# Altium integrated library Resistores SMD.IntLib: 27 symbols
Pins are listed as number, name and electrical type; pins without a type are passive.

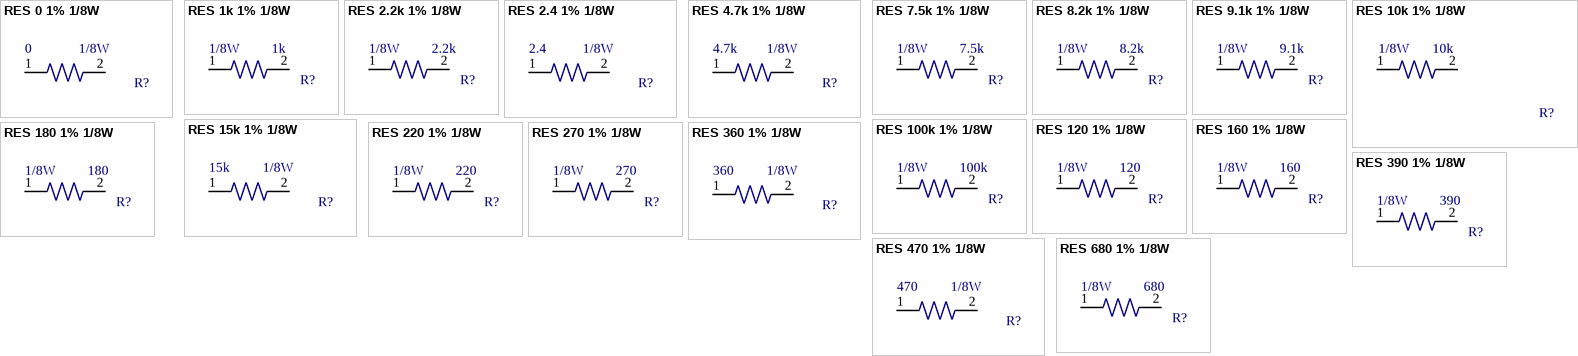
[diagram p0: symbols RES 0 1% 1/8W to RES 680 1% 1/8W]

## RES 0 1% 1/8W
designator R?, comment Power: 1/8W  Resistence: 0  (hidden comment: RES 0805)
0 Ohms ±1% 0.125W, 1/8W Chip Resistor 0805 (2012 Metric) Moisture Resistant Thick Film; Manufacturer 1: Vishay Dale; Manufacturer 1 PN: CRCW08050000Z0EA; ComponentLink1Description: Datasheet; ComponentLink1URL: http://www.yageo.com/documents/recent/PYu-RC_Group_51_RoHS_L_9.pdf; Digikey PN: 541-0.0ACT-ND; Mouser PN: 71-CRCW0805-0-E3
footprint RES SMD 0 OHM 1% 1/8W 0805 (0 Ohms ±1% 0.125W, 1/8W Chip Resistor 0805 (2012 Metric) Moisture Resistant Thick Film)
pins: 1, 2

## RES 1k 1% 1/8W
designator R?, comment Resistence: 1k  Power: 1/8W  (hidden comment: RES 0805)
1kOhms ±1% 0.125W, 1/8W Chip Resistor 0805 (2012 Metric) Moisture Resistant Thick Film; Manufacturer 1: Yageo; Manufacturer 1 PN: RC0805FR-071KL; Digikey PN: 311-1.00KCRCT-ND; ComponentLink1Description: Datasheet; ComponentLink1URL: http://www.yageo.com/documents/recent/PYu-RC_Group_51_RoHS_L_9.pdf; Mouser PN: 603-RC0805FR-071KL
footprint RES SMD 1KOHM 1% 1/8W 0805 (1kOhms ±1% 0.125W, 1/8W Chip Resistor 0805 (2012 Metric) Moisture Resistant Thick Film)
pins: 1, 2

## RES 2.2k 1% 1/8W
designator R?, comment Resistence: 2.2k  Power: 1/8W  (hidden comment: RES 0805)
2.2 kOhms ±1% 0.125W, 1/8W Chip Resistor 0805 (2012 Metric) Moisture Resistant Thick Film; Manufacturer 1: Yageo; Manufacturer 1 PN: RC0805FR-072K2L; Digikey PN: 311-2.20KCRCT-ND; ComponentLink1Description: Datasheet; ComponentLink1URL: http://www.yageo.com/documents/recent/PYu-RC_Group_51_RoHS_L_9.pdf; Mouser PN: 603-RC0805FR-072K2L
footprint RES SMD 2.2k OHM 1% 1/8W 0805 (2.2k Ohms ±1% 0.125W, 1/8W Chip Resistor 0805 (2012 Metric) Moisture Resistant Thick Film)
pins: 1, 2

## RES 2.4 1% 1/8W
designator R?, comment Power: 1/8W  Resistence: 2.4  (hidden comment: RES 0805)
2.4 Ohms ±1% 0.125W, 1/8W Chip Resistor 0805 (2012 Metric) Moisture Resistant Thick Film; Manufacturer 1: Yageo; Manufacturer 1 PN: AC0805FR-072R4L; ComponentLink1Description: Datasheet; ComponentLink1URL: http://www.yageo.com/documents/recent/PYu-RC_Group_51_RoHS_L_9.pdf; Digikey PN: YAG5364CT-ND; Mouser PN: 603-AC0805FR-072R4L
footprint RES SMD 2.4OHM 1% 1/8W 0805 (2.4Ohms ±1% 0.125W, 1/8W Chip Resistor 0805 (2012 Metric) Moisture Resistant Thick Film)
pins: 1, 2

## RES 4.7k 1% 1/8W
designator R?, comment Power: 1/8W  Resistence: 4.7k  (hidden comment: RES 0805)
4.7k Ohms ±1% 0.125W, 1/8W Chip Resistor 0805 (2012 Metric) Moisture Resistant Thick Film; Manufacturer 1: Yageo; Manufacturer 1 PN: RC0805FR-074K7L; ComponentLink1Description: Datasheet; ComponentLink1URL: http://www.yageo.com/documents/recent/PYu-RC_Group_51_RoHS_L_9.pdf; Digikey PN: 311-4.70KCRCT-ND; Mouser PN: 603-RC0805FR-074K7L
footprint RES SMD 4.7KOHM 1% 1/8W 0805 (4.7kOhms ±1% 0.125W, 1/8W Chip Resistor 0805 (2012 Metric) Moisture Resistant Thick Film)
pins: 1, 2

## RES 7.5k 1% 1/8W
designator R?, comment Resistence: 7.5k  Power: 1/8W  (hidden comment: RES 0805)
7.5kOhms ±1% 0.125W, 1/8W Chip Resistor 0805 (2012 Metric) Moisture Resistant Thick Film; Manufacturer 1: Yageo; Manufacturer 1 PN: RC0805FR-077R5L; Digikey PN: 311-7.50CRCT-ND; ComponentLink1Description: Datasheet; ComponentLink1URL: http://www.yageo.com/documents/recent/PYu-RC_Group_51_RoHS_L_9.pdf; Mouser PN: 603-RC0805FR-077R5L
footprint RES SMD 7.5kOHM 1% 1/8W 0805 (7.5kOhms ±1% 0.125W, 1/8W Chip Resistor 0805 (2012 Metric) Moisture Resistant Thick Film)
pins: 1, 2

## RES 8.2k 1% 1/8W
designator R?, comment Resistence: 8.2k  Power: 1/8W  (hidden comment: RES 0805)
8.2kOhms ±1% 0.125W, 1/8W Chip Resistor 0805 (2012 Metric) Moisture Resistant Thick Film; Manufacturer 1: Yageo; Manufacturer 1 PN: RC0805FR-078K2L; Digikey PN: 311-8.20KCRCT-ND; ComponentLink1Description: Datasheet; ComponentLink1URL: http://www.yageo.com/documents/recent/PYu-RC_Group_51_RoHS_L_9.pdf; Mouser PN: 603-RC0805FR-078K2L
footprint RES SMD 8.2k OHM 1% 1/8W 0805 (8.2k Ohms ±1% 0.125W, 1/8W Chip Resistor 0805 (2012 Metric) Moisture Resistant Thick Film)
pins: 1, 2

## RES 9.1k 1% 1/8W
designator R?, comment Resistence: 9.1k  Power: 1/8W  (hidden comment: RES 0805)
9.1kOhms ±1% 0.125W, 1/8W Chip Resistor 0805 (2012 Metric) Moisture Resistant Thick Film; Manufacturer 1: Yageo; Manufacturer 1 PN: RC0805FR-079K1L; Digikey PN: 311-9.10KCRCT-ND; ComponentLink1Description: Datasheet; ComponentLink1URL: http://www.yageo.com/documents/recent/PYu-RC_Group_51_RoHS_L_9.pdf; Mouser PN: 603-RC0805FR-079K1L
footprint RES SMD 9.1k OHM 1% 1/8W 0805 (9.1k Ohms ±1% 0.125W, 1/8W Chip Resistor 0805 (2012 Metric) Moisture Resistant Thick Film)
pins: 1, 2

## RES 10k 1% 1/8W
designator R?, comment Resistence: 10k  Power: 1/8W  (hidden comment: RES 0805)
10 kOhms ±1% 0.125W, 1/8W Chip Resistor 0805 (2012 Metric) Moisture Resistant Thick Film; Manufacturer 1: Yageo; Manufacturer 1 PN: RC0805FR-0710KL; Digikey PN: 311-10.0KCRCT-ND; ComponentLink1Description: Datasheet; ComponentLink1URL: http://www.yageo.com/documents/recent/PYu-RC_Group_51_RoHS_L_9.pdf; Mouser PN: 603-RC0805FR-0710KL
footprint RES SMD 10KOHM 1% 1/8W 0805 (10 kOhms ±1% 0.125W, 1/8W Chip Resistor 0805 (2012 Metric) Moisture Resistant Thick Film)
pins: 1, 2

## RES 15k 1% 1/8W
designator R?, comment Power: 1/8W  Resistence: 15k  (hidden comment: RES 0805)
15k Ohms ±1% 0.125W, 1/8W Chip Resistor 0805 (2012 Metric) Moisture Resistant Thick Film; Manufacturer 1: Yageo; Manufacturer 1 PN: RC0805FR-0715KL; ComponentLink1Description: Datasheet; ComponentLink1URL: http://www.yageo.com/documents/recent/PYu-RC_Group_51_RoHS_L_9.pdf; Digikey PN: 311-15.0KCRCT-ND; Mouser PN: 603-RC0805FR-0715KL
footprint RES SMD 15KOHM 1% 1/8W 0805 (15kOhms ±1% 0.125W, 1/8W Chip Resistor 0805 (2012 Metric) Moisture Resistant Thick Film)
pins: 1, 2

## RES 100k 1% 1/8W
designator R?, comment Resistence: 100k  Power: 1/8W  (hidden comment: RES 0805)
100k Ohms ±1% 0.125W, 1/8W Chip Resistor 0805 (2012 Metric) Moisture Resistant Thick Film; Manufacturer 1: Yageo; Manufacturer 1 PN: RC0805FR-07100KL; Digikey PN: 311-100KCRCT-ND; ComponentLink1Description: Datasheet; ComponentLink1URL: http://www.yageo.com/documents/recent/PYu-RC_Group_51_RoHS_L_9.pdf; Mouser PN: 603-RC0805FR-07100KL
footprint RES SMD 100k OHM 1% 1/8W 0805 (100k Ohms ±1% 0.125W, 1/8W Chip Resistor 0805 (2012 Metric) Moisture Resistant Thick Film)
pins: 1, 2

## RES 120 1% 1/8W
designator R?, comment Resistence: 120  Power: 1/8W  (hidden comment: RES 0805)
120 Ohms ±1% 0.125W, 1/8W Chip Resistor 0805 (2012 Metric)  Thick Film; Manufacturer 1: TE Connectivity Passive Product; Manufacturer 1 PN: CRG0805F120R; Digikey PN: A126336CT-ND; ComponentLink1Description: Datasheet; ComponentLink1URL: http://www.yageo.com/documents/recent/PYu-RC_Group_51_RoHS_L_9.pdf; Mouser PN: 279-CRG0805F120R
footprint RES SMD 120OHM 1% 1/8W 0805 (120 Ohms ±1% 0.125W, 1/8W Chip Resistor 0805 (2012 Metric)  Thick Film)
pins: 1, 2

## RES 160 1% 1/8W
designator R?, comment Resistence: 160  Power: 1/8W  (hidden comment: RES 0805)
160 Ohms ±1% 0.125W, 1/8W Chip Resistor 0805 (2012 Metric) Moisture Resistant Thick Film; Manufacturer 1: Yageo; Manufacturer 1 PN: RC0805FR-07160RL; Digikey PN: 311-160CRCT-ND; ComponentLink1Description: Datasheet; ComponentLink1URL: http://www.yageo.com/documents/recent/PYu-RC_Group_51_RoHS_L_9.pdf; Mouser PN: 603-RC0805FR-07160RL
footprint RES SMD 160 OHM 1% 1/8W 0805 (160 Ohms ±1% 0.125W, 1/8W Chip Resistor 0805 (2012 Metric) Moisture Resistant Thick Film)
pins: 1, 2

## RES 180 1% 1/8W
designator R?, comment Resistence: 180  Power: 1/8W  (hidden comment: RES 0805)
180Ohms ±1% 0.125W, 1/8W Chip Resistor 0805 (2012 Metric) Moisture Resistant Thick Film; Manufacturer 1: Yageo; Manufacturer 1 PN: RC0805FR-07180RL; Digikey PN: 311-180CRCT-ND; ComponentLink1Description: Datasheet; ComponentLink1URL: http://www.yageo.com/documents/recent/PYu-RC_Group_51_RoHS_L_9.pdf; Mouser PN: 603-RC0805FR-07180RL
footprint RES SMD 180 OHM 1% 1/8W 0805 (180 Ohms ±1% 0.125W, 1/8W Chip Resistor 0805 (2012 Metric) Moisture Resistant Thick Film)
pins: 1, 2

## RES 220 1% 1/8W
designator R?, comment Resistence: 220  Power: 1/8W  (hidden comment: RES 0805)
220Ohms ±1% 0.125W, 1/8W Chip Resistor 0805 (2012 Metric) Moisture Resistant Thick Film; Manufacturer 1: Yageo; Manufacturer 1 PN: RC0805FR-07220RL; Digikey PN: 311-220CRCT-ND; ComponentLink1Description: Datasheet; ComponentLink1URL: http://www.yageo.com/documents/recent/PYu-RC_Group_51_RoHS_L_9.pdf; Mouser PN: 603-RC0805FR-07220RL
footprint RES SMD 220 OHM 1% 1/8W 0805 (220 Ohms ±1% 0.125W, 1/8W Chip Resistor 0805 (2012 Metric) Moisture Resistant Thick Film)
pins: 1, 2

## RES 270 1% 1/8W
designator R?, comment Resistence: 270  Power: 1/8W  (hidden comment: RES 0805)
270Ohms ±1% 0.125W, 1/8W Chip Resistor 0805 (2012 Metric) Moisture Resistant Thick Film; Manufacturer 1: Yageo; Manufacturer 1 PN: RC0805FR-07270RL; Digikey PN: 311-270CRCT-ND; ComponentLink1Description: Datasheet; ComponentLink1URL: http://www.yageo.com/documents/recent/PYu-RC_Group_51_RoHS_L_9.pdf; Mouser PN: 603-RC0805FR-07270RL
footprint RES SMD 270 OHM 1% 1/8W 0805 (270 Ohms ±1% 0.125W, 1/8W Chip Resistor 0805 (2012 Metric) Moisture Resistant Thick Film)
pins: 1, 2

## RES 360 1% 1/8W
designator R?, comment Power: 1/8W  Resistence: 360  (hidden comment: RES 0805)
360 Ohms ±0.1% 0.125W, 1/8W Chip Resistor 0805 (2012 Metric) Automotive AEC-Q200 Thin Film; Manufacturer 1: Panasonic Electronic Components; Manufacturer 1 PN: ERA-6AEB361V; ComponentLink1Description: Datasheet; ComponentLink1URL: http://www.yageo.com/documents/recent/PYu-RC_Group_51_RoHS_L_9.pdf; Digikey PN: P360DACT-ND; Mouser PN: 603-RC0805FR-07470RL
footprint RES SMD 360OHM 1% 1/8W 0805 (360 Ohms ±1% 0.125W, 1/8W Chip Resistor 0805 (2012 Metric) Moisture Resistant Thick Film)
pins: 1, 2

## RES 390 1% 1/8W
designator R?, comment Resistence: 390  Power: 1/8W  (hidden comment: RES 0805)
390 Ohms ±1% 0.125W, 1/8W Chip Resistor 0805 (2012 Metric)  Thick Film; Manufacturer 1: TE Connectivity Passive Product; Manufacturer 1 PN: CRG0805F390R; Digikey PN: A126365CT-ND; ComponentLink1Description: Datasheet; ComponentLink1URL: http://www.yageo.com/documents/recent/PYu-RC_Group_51_RoHS_L_9.pdf; Mouser PN: 279-CRG0805F390R
footprint RES SMD 390 OHM 1% 1/8W 0805 (390 Ohms ±1% 0.125W, 1/8W Chip Resistor 0805 (2012 Metric) Moisture Resistant Thick Film)
pins: 1, 2

## RES 470 1% 1/8W
designator R?, comment Power: 1/8W  Resistence: 470  (hidden comment: RES 0805)
470 Ohms ±1% 0.125W, 1/8W Chip Resistor 0805 (2012 Metric) Moisture Resistant Thick Film; Manufacturer 1: Yageo; Manufacturer 1 PN: RC0805FR-07470RL; ComponentLink1Description: Datasheet; ComponentLink1URL: http://www.yageo.com/documents/recent/PYu-RC_Group_51_RoHS_L_9.pdf; Digikey PN: 311-10.0KCRCT-ND; Mouser PN: 603-RC0805FR-07470RL
footprint RES SMD 470OHM 1% 1/8W 0805 (470 Ohms ±1% 0.125W, 1/8W Chip Resistor 0805 (2012 Metric) Moisture Resistant Thick Film)
pins: 1, 2

## RES 680 1% 1/8W
designator R?, comment Resistence: 680  Power: 1/8W  (hidden comment: RES 0805)
680 Ohms ±1% 0.125W, 1/8W Chip Resistor 0805 (2012 Metric) Automotive AEC-Q200, Moisture Resistant Thick Film; Manufacturer 1: TE Connectivity Passive Product; Manufacturer 1 PN: CRGCQ0805F680R; Digikey PN: A129747CT-ND; ComponentLink1Description: Datasheet; ComponentLink1URL: http://www.yageo.com/documents/recent/PYu-RC_Group_51_RoHS_L_9.pdf; Mouser PN: 279-CRGCQ0805F680R
footprint RES SMD 680 OHM 1% 1/8W 0805 (680 Ohms ±1% 0.125W, 1/8W Chip Resistor 0805 (2012 Metric) Moisture Resistant Thick Film)
pins: 1, 2


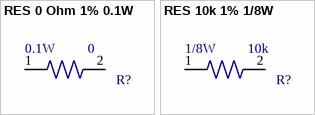
[diagram p1: symbols RES 0 Ohm 1% 0.1W to RES 10k 1% 1/8W]

## RES 0 Ohm 1% 0.1W
designator R?, comment Resistence: 0  Power: 0.1W  (hidden comment: RES 0603)
0 Ohms Jumper 0.1W, 1/10W Chip Resistor 0603 (1608 Metric) Moisture Resistant Thick Film; Manufacturer 1: Yageo; Manufacturer 1 PN: RC0603JR-070RL; Digikey PN: 311-0.0GRCT-ND; ComponentLink1Description: Datasheet; ComponentLink1URL: http://www.yageo.com/documents/recent/PYu-RC_Group_51_RoHS_L_9.pdf; Mouser PN: 603-RC0603JR-070RL
footprint RES 0 Ohm 1% 0.1W (0 Ohms Jumper 0.1W, 1/10W Chip Resistor 0603 (1608 Metric) Moisture Resistant Thick Film)
pins: 1, 2

## RES 10k 1% 1/8W
designator R?, comment Resistence: 10k  Power: 1/8W  (hidden comment: RES 0603)
10 kOhms ±1% 0.125W, 1/8W Chip Resistor 0603 (1608 Metric) Anti-Sulfur, Moisture Resistant Thin Film; Manufacturer 1: Stackpole Electronics Inc.; Manufacturer 1 PN: RNCP0603FTD10K0; Digikey PN: RNCP0603FTD10K0CT-ND; ComponentLink1Description: Datasheet; ComponentLink1URL: http://www.yageo.com/documents/recent/PYu-RC_Group_51_RoHS_L_9.pdf; Mouser PN: 755-ESR03EZPF1002
footprint RES 10k 1% 1/8W (10 kOhms ±1% 0.125W, 1/8W Chip Resistor 0603 (1608 Metric) Anti-Sulfur, Moisture Resistant Thin Film)
pins: 1, 2


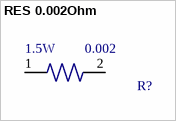
[diagram p2: symbol RES 0.002Ohm]

## RES 0.002Ohm
designator R?, comment Resistence: 0.002  Power: 1.5W  (hidden comment: RES 2010)
2 mOhms ±1% 1.5W Chip Resistor 2010 (5025 Metric) Current Sense, Moisture Resistant Metal Foil; Manufacturer 1: Stackpole Electronics Inc.; Manufacturer 1 PN: CSNL2010FT2L00
footprint RES 0.002 OHM 1% 1.5W 2010 (2 mOhms ±1% 1.5W Chip Resistor 2010 (5025 Metric) Current Sense, Moisture Resistant Metal Foil)
pins: 1, 2


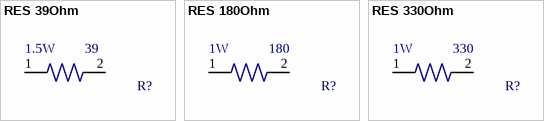
[diagram p3: symbols RES 39Ohm to RES 330Ohm]

## RES 39Ohm
designator R?, comment Resistence: 39  Power: 1.5W  (hidden comment: RES 2512)
39 Ohms ±1% 1.5W Chip Resistor 2512 (6432 Metric) Automotive AEC-Q200, Pulse Withstanding Thick Film; Manufacturer 1: Vishay Dale; Manufacturer 1 PN: CRCW251239R0FKEGHP; ComponentLink1Description: Datasheet; ComponentLink1URL: http://www.vishay.com/docs/20043/crcwhpe3.pdf; Digikey PN: 541-39.0RCT-ND; Mouser PN: CRCW251239R0FKEGHP
footprint RES SMD 39 OHM 1% 1.5W 2512 (39 Ohms ±1% 1.5W Chip Resistor 2512 (6432 Metric) Automotive AEC-Q200, Pulse Withstanding Thick Film)
pins: 1, 2

## RES 180Ohm
designator R?, comment Resistence: 180  Power: 1W  (hidden comment: RES 2512)
180 Ohms ±5% 1W Chip Resistor 2512 (6432 Metric) Automotive AEC-Q200 Thick Film; Manufacturer 1: Vishay Dale; Manufacturer 1 PN: CRCW2512180RJNEG; ComponentLink1Description: Datasheet; ComponentLink1URL: http://www.vishay.com/docs/20043/crcwhpe3.pdf; Digikey PN: 541-180XCT-ND; Mouser PN: 71-CRCW2512J-180-E3
footprint RES SMD 180 OHM 1% 1W 2512 (180 Ohms ±5% 1W Chip Resistor 2512 (6432 Metric) Automotive AEC-Q200 Thick Film)
pins: 1, 2

## RES 330Ohm
designator R?, comment Resistence: 330  Power: 1W  (hidden comment: RES 2512)
330 Ohms ±5% 1W Chip Resistor 2512 (6432 Metric) Automotive AEC-Q200 Thick Film; Manufacturer 1: Vishay Dale; Manufacturer 1 PN: CRCW2512330RJNEG; ComponentLink1Description: Datasheet; ComponentLink1URL: http://www.vishay.com/docs/20043/crcwhpe3.pdf; Digikey PN: 541-330XCT-ND; Mouser PN: 71-CRCW2512J-330-E3
footprint RES SMD 330 OHM 1% 1W 2512 (330 Ohms ±5% 1W Chip Resistor 2512 (6432 Metric) Automotive AEC-Q200 Thick Film)
pins: 1, 2


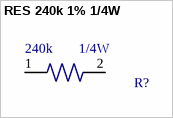
[diagram p4: symbol RES 240k 1% 1/4W]

## RES 240k 1% 1/4W
designator R?, comment Power: 1/4W  Resistence: 240k  (hidden comment: RES 1206)
240 kOhms ±1% 0.25W, 1/4W Chip Resistor 1206 (3216 Metric) Automotive AEC-Q200, High Voltage Thick Film; Manufacturer 1: Rohm Semiconductor; Manufacturer 1 PN: KTR18EZPF2403; Digikey PN: RHM240KAICT-ND; ComponentLink1Description: Datasheet; ComponentLink1URL: https://www.rohm.com/datasheet/KTR03EZPF/ktr-e; Mouser PN: 755-KTR18EZPF2403
footprint RES SMD 240 KOHM 1% 1/4W 1206 (240 kOhms ±1% 0.25W, 1/4W Chip Resistor 1206 (3216 Metric) Automotive AEC-Q200, High Voltage Thick Film)
pins: 1, 2